# Altium footprint library connector.PcbLib: 46 footprints (part 3 of 3)
Each footprint in its own frame and in the unit in brackets; x right, y up, seen from the top. Pads: shape width x height; smd on the part's side, far side on the other; paste and mask are expansions set on the pad; w line width, h text height; cw(c..) or ccw(c..) is an arc to the next point about the centre after c.
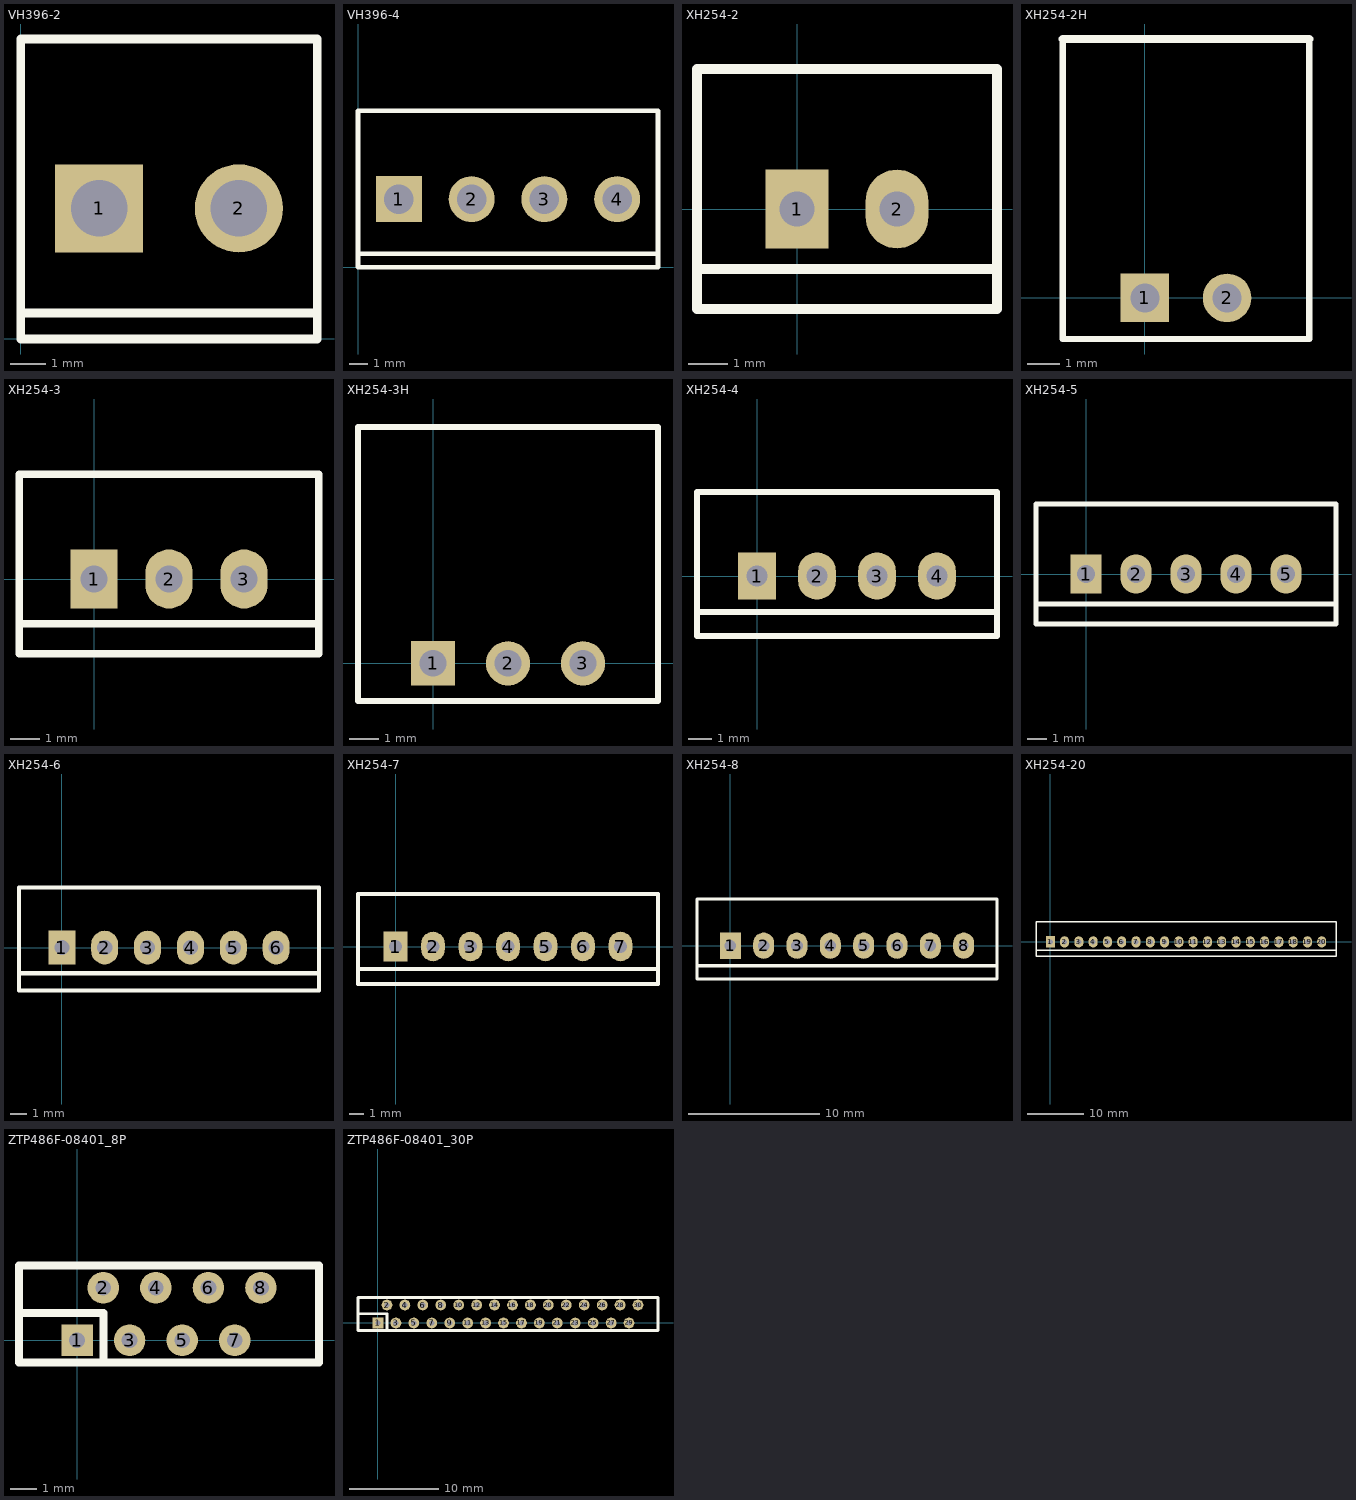
[diagram p2: the footprints below, top view; thin cyan lines are the x and y axes]

## VH396-2 [mm]
height 14.6
pads (2):
  rect 2.5x2.5 hole 1.6: 1(2.22,3.7)
  round 2.5 hole 1.6: 2(6.18,3.7)
Top Overlay:
  lines w0.254: 0,0.737 8.357,0.737 ; 0,0 8.4,0 8.4,8.5 0,8.5 0,0

## VH396-4 [mm]
height 14.6
pads (4):
  rect 2.5x2.5 hole 1.6: 1(2.22,3.7)
  round 2.5 hole 1.6: 2(6.18,3.7) 3(10.14,3.7) 4(14.1,3.7)
Top Overlay:
  lines w0.254: 0,0.737 16.231,0.737 ; 0,0 16.32,0 16.32,8.5 0,8.5 0,0

## XH254-2 [mm]
pads (2):
  rect 1.6x2 hole 0.9: 1(0,0)
  oval 1.6x2 hole 0.9: 2(2.54,0)
Top Overlay:
  lines w0.254: -2.54,-1.524 5.08,-1.524 ; -2.54,-2.54 5.08,-2.54 5.08,3.556 -2.54,3.556 -2.54,0.508 -2.54,-2.54

## XH254-2H [mm] "Connector; Header; 2 Position"
pads (2):
  rect 1.5x1.5 hole 0.9: 1(0,0)
  round 1.5 hole 0.9: 2(2.54,0)
Top Overlay:
  lines w0.2: -2.54,8 -2.54,-1.27 5.08,-1.27 5.08,8
  lines w0.254: -2.54,8 5.08,8

## XH254-3 [mm]
pads (3):
  rect 1.6x2 hole 0.9: 1(0,0)
  oval 1.6x2 hole 0.9: 2(2.54,0) 3(5.08,0)
Top Overlay:
  lines w0.254: -2.54,-1.524 7.62,-1.524 ; -2.54,-2.54 -2.54,0.508 -2.54,3.556 7.62,3.556 7.62,-2.54 -2.54,-2.54

## XH254-3H [mm] "Connector; Header; 3 Position"
pads (3):
  rect 1.5x1.5 hole 0.9: 1(0,0)
  round 1.5 hole 0.9: 2(2.54,0) 3(5.08,0)
Top Overlay:
  lines w0.2: -2.54,-1.27 -2.54,8 7.62,8 7.62,-1.27 -2.54,-1.27

## XH254-4 [mm]
pads (4):
  rect 1.6x2 hole 0.9: 1(0,0)
  oval 1.6x2 hole 0.9: 2(2.54,0) 3(5.08,0) 4(7.62,0)
Top Overlay:
  lines w0.254: -2.54,-1.524 10.16,-1.524 ; -2.54,-2.54 -2.54,0.508 -2.54,3.556 10.16,3.556 10.16,-2.54 9.652,-2.54 -2.54,-2.54

## XH254-5 [mm]
pads (5):
  rect 1.6x2 hole 0.9: 1(0,0)
  oval 1.6x2 hole 0.9: 2(2.54,0) 3(5.08,0) 4(7.62,0) 5(10.16,0)
Top Overlay:
  lines w0.254: -2.54,-1.524 7.62,-1.524 12.7,-1.524 ; -2.54,-2.54 9.652,-2.54 10.16,-2.54 12.7,-2.54 12.7,3.556 10.16,3.556 -2.54,3.556 -2.54,0.508 -2.54,-2.54

## XH254-6 [mm]
pads (6):
  rect 1.6x2 hole 0.9: 1(0,0)
  oval 1.6x2 hole 0.9: 2(2.54,0) 3(5.08,0) 4(7.62,0) 5(10.16,0) 6(12.7,0)
Top Overlay:
  lines w0.254: -2.54,-1.524 7.62,-1.524 15.24,-1.524 ; -2.54,-2.54 -2.54,0.508 -2.54,3.556 10.16,3.556 15.24,3.556 15.24,-2.54 10.16,-2.54 9.652,-2.54 -2.54,-2.54

## XH254-7 [mm]
pads (7):
  rect 1.6x2 hole 0.9: 1(0,0)
  oval 1.6x2 hole 0.9: 2(2.54,0) 3(5.08,0) 4(7.62,0) 5(10.16,0) 6(12.7,0) 7(15.24,0)
Top Overlay:
  lines w0.254: -2.413,-1.524 7.62,-1.524 17.653,-1.524 ; -2.54,-2.54 9.652,-2.54 10.16,-2.54 17.78,-2.54 17.78,3.556 10.16,3.556 -2.54,3.556 -2.54,0.508 -2.54,-2.54

## XH254-8 [mm]
pads (8):
  rect 1.6x2 hole 0.9: 1(0,0)
  oval 1.6x2 hole 0.9: 2(2.54,0) 3(5.08,0) 4(7.62,0) 5(10.16,0) 6(12.7,0) 7(15.24,0)
  oval 1.6x2 hole 0.76: 8(17.78,0)
Top Overlay:
  lines w0.254: -2.413,-1.524 7.62,-1.524 12.7,-1.524 20.32,-1.524 ; -2.54,-2.54 9.652,-2.54 10.16,-2.54 15.24,-2.54 20.32,-2.54 20.32,3.556 15.24,3.556 10.16,3.556 -2.54,3.556 -2.54,0.508 -2.54,-2.54

## XH254-20 [mm]
pads (20):
  rect 1.6x2 hole 0.9: 1(0,0)
  oval 1.6x2 hole 0.9: 2(2.54,0) 3(5.08,0) 4(7.62,0) 5(10.16,0) 6(12.7,0) 7(15.24,0) 8(17.78,0) 9(20.32,0) 10(22.86,0) 11(25.4,0) 12(27.94,0) 13(30.48,0) 14(33.02,0) 15(35.56,0) 16(38.1,0) 17(40.64,0) 18(43.18,0) 19(45.72,0) 20(48.26,0)
Top Overlay:
  lines w0.254: -2.413,-1.524 7.62,-1.524 12.7,-1.524 50.673,-1.524 ; -2.54,-2.54 -2.54,0.508 -2.54,3.556 10.16,3.556 15.24,3.556 50.8,3.556 50.8,-2.54 15.24,-2.54 10.16,-2.54 9.652,-2.54 -2.54,-2.54

## ZTP486F-08401_8P [mm]
height 8.128
pads (8):
  rect 1.2x1.2 hole 0.6: 1(0,0)
  round 1.2 hole 0.6: 2(1,2) 3(2,0) 4(3,2) 5(4,0) 6(5,2) 7(6,0) 8(7,2)
Top Overlay:
  lines w0.305: -2.21,1.041 1.016,1.041 1.016,-0.838 ; -2.21,-0.838 -2.21,2.838 9.21,2.838 9.21,-0.838 -2.21,-0.838

## ZTP486F-08401_30P [mm]
height 8.128
pads (30):
  rect 1.2x1.2 hole 0.6: 1(0,0)
  round 1.2 hole 0.6: 2(1,2) 3(2,0) 4(3,2) 5(4,0) 6(5,2) 7(6,0) 8(7,2) 9(8,0) 10(9,2) 11(10,0) 12(11,2) 13(12,0) 14(13,2) 15(14,0) 16(15,2) 17(16,0) 18(17,2) 19(18,0) 20(19,2) 21(20,0) 22(21,2) 23(22,0) 24(23,2) 25(24,0) 26(25,2) 27(26,0) 28(27,2) 29(28,0) 30(29,2)
Top Overlay:
  lines w0.305: -2.23,1.041 1.016,1.041 1.016,-0.838 ; -2.23,-0.838 -2.23,2.838 31.23,2.838 31.23,-0.838 -2.23,-0.838